# Altium schematic symbol library BLM15AG601SN1D.SchLib: 2 symbols
Pins are listed as number, name and electrical type; pins without a type are passive.

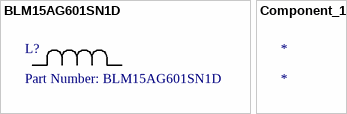
[diagram p0: symbols BLM15AG601SN1D to Component_1]

## BLM15AG601SN1D
designator L?, comment Part Number: BLM15AG601SN1D
No Description Available; Vendor: MURATA; Built_By: EMA_UL_Team; Type: DEV; Manufacturer_Part_Number: BLM15AG601SN1D; Copyright: Copyright (C) 2018 Accelerated Designs. All rights reserved; RefDes: RefDes; Value: Value
footprint IND_BLM15_0402
pins: 1, 2

## Component_1
designator *